# EAGLE library part MCP7940N-I/SN (library my-Microchip-Technology)
Real Time Clock I2C GP RTCC 64B SRAM
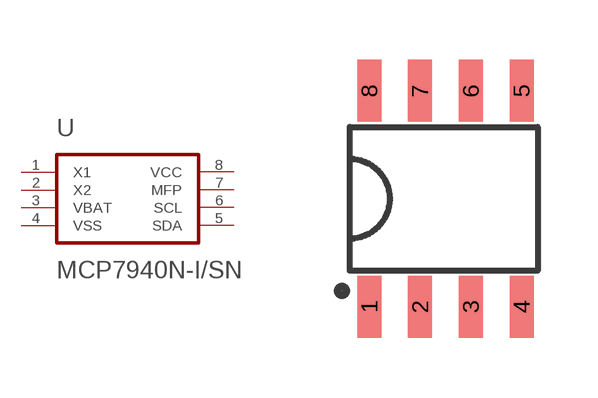
[diagram p2: symbol with the pads of SOIC-8; footprint SOIC-8]

Designator prefix -

## MCP7940N-I/SN  [SOIC-8]
1  X1
2  X2
3  VBAT
4  VSS
5  SDA
6  SCL
7  MFP
8  VCC

## Footprint SOIC-8 (pad centres in mm)
smd 0.6 x 1.55: 1 -1.91,-2.7; 2 -0.64,-2.7; 3 0.63,-2.7; 4 1.9,-2.7; 5 1.9,2.7; 6 0.63,2.7; 7 -0.64,2.7; 8 -1.91,2.7